# EAGLE library part ADCMP600 (library ADCMP600)
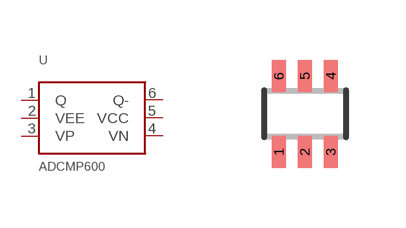
[diagram p0: symbol with the pads of SC70-6; footprint SC70-6]

Designator prefix -

## ADCMP600  [SC70-6]
1  Q
2  VEE
3  VP
4  VN
5  VCC
6  Q-

## Footprint SC70-6 (pad centres in mm)
6-Lead Thin Shrink Small Outline Transistor Package SC70 Source: http://www.analog.com/static/imported-files/data_sheets/ADA4853-1_4853-2_4853-3.pdf
smd 0.35 x 0.8: 1 -0.65,-0.95; 2 0,-0.95; 3 0.65,-0.95; 4 0.65,0.95; 5 0,0.95; 6 -0.65,0.95